# Altium schematic symbol library VPG1S-02H-R.Schlib: 1 symbol
Pins are listed as number, name and electrical type; pins without a type are passive.

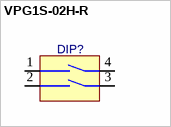
[diagram p0: symbol VPG1S-02H-R]

## VPG1S-02H-R
designator DIP?
pins: 1, 2, 3, 4